# Altium footprint library Linear Technology Power Management Switching Regulator LT1074-LT8705.PcbLib: 146 footprints (part 8 of 10)
Each footprint in its own frame and in the unit in brackets; x right, y up, seen from the top. Pads: shape width x height; smd on the part's side, far side on the other; paste and mask are expansions set on the pad; w line width, h text height; cw(c..) or ccw(c..) is an arc to the next point about the centre after c.
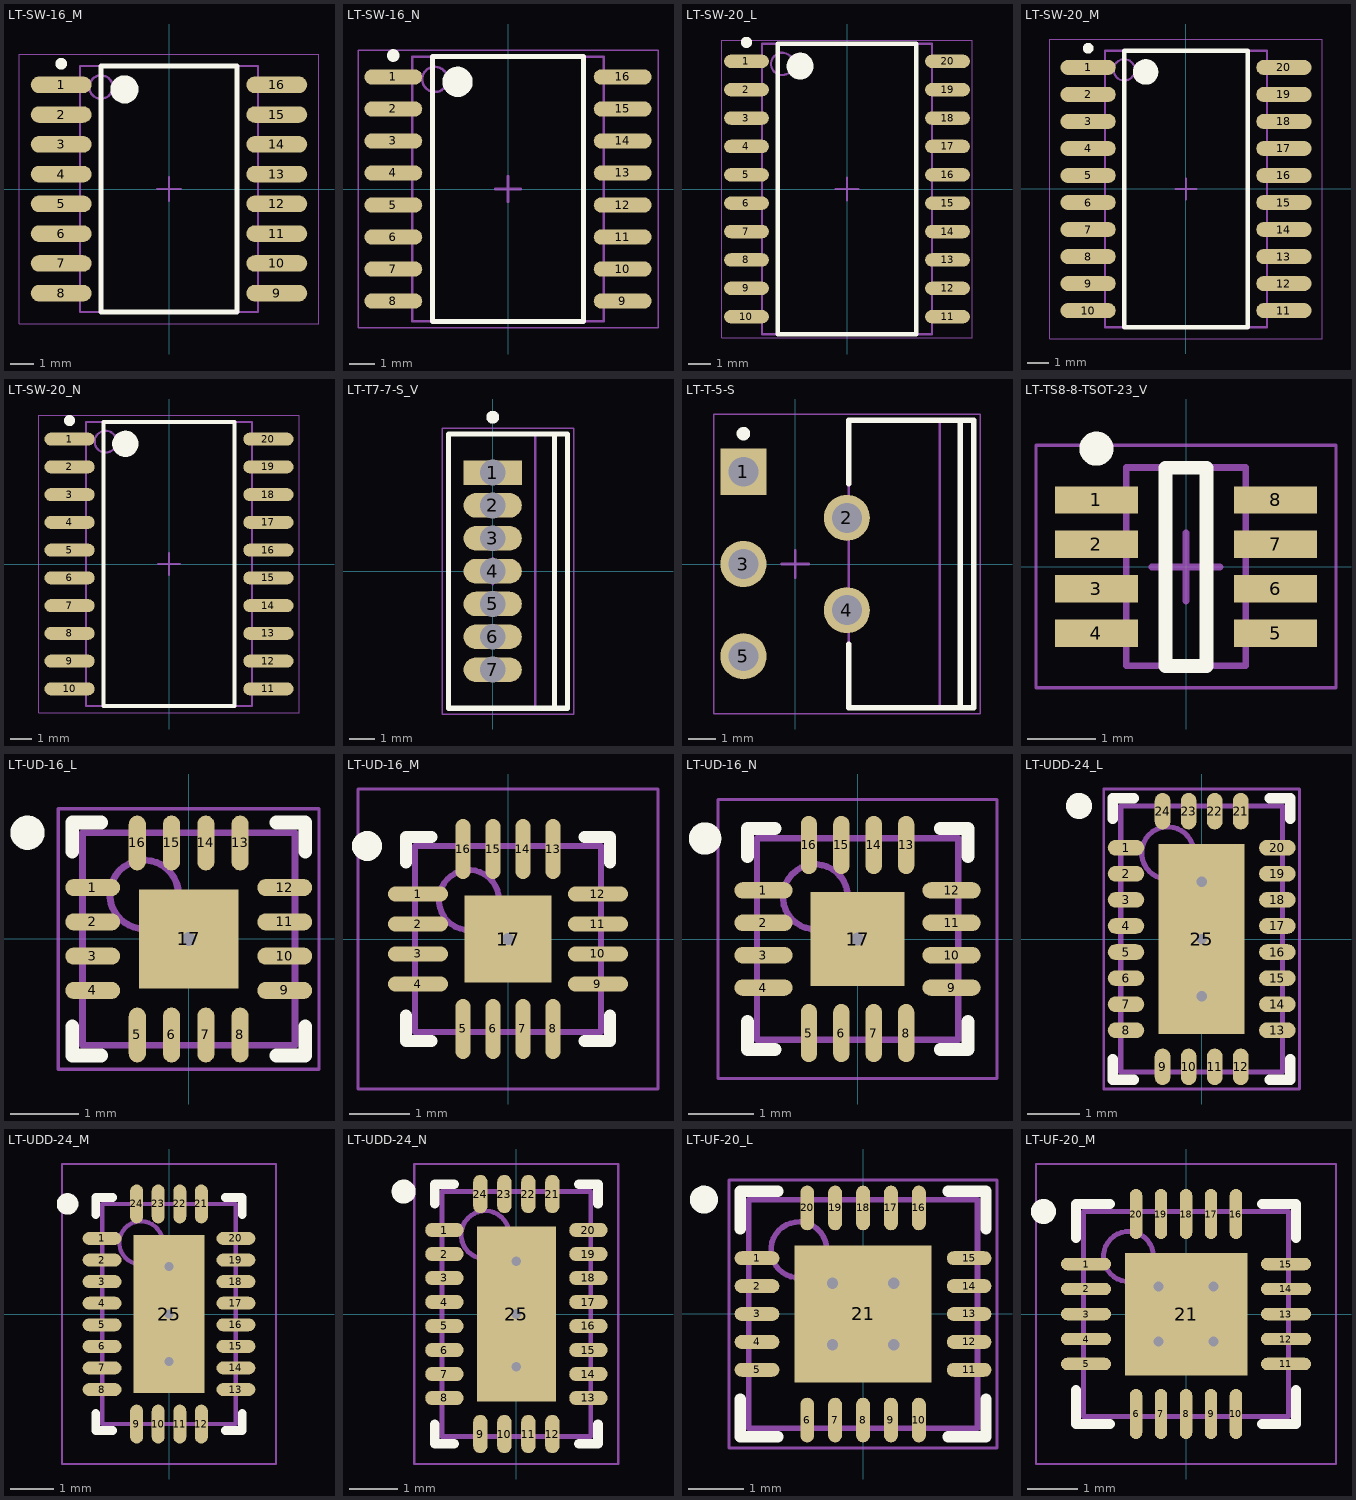
[diagram p7: the footprints below, top view; thin cyan lines are the x and y axes]

## LT-SW-16_M [mm] "SOIC, 16-Leads, Body 10.3x7.49mm, Pitch 1.27mm, IPC Low Density"
height 2.65
pads (16):
  oval 2.6x0.7 smd: 1(-4.6,4.445) 2(-4.6,3.175) 3(-4.6,1.905) 4(-4.6,0.635) 5(-4.6,-0.635) 6(-4.6,-1.905) 7(-4.6,-3.175) 8(-4.6,-4.445) 9(4.6,-4.445) 10(4.6,-3.175) 11(4.6,-1.905) 12(4.6,-0.635) 13(4.6,0.635) 14(4.6,1.905) 15(4.6,3.175) 16(4.6,4.445)
Top Overlay:
  circle w0.6: c-1.9,4.25 r0.3
  circle w0.25: c-4.6,5.345 r0.125
  lines w0.2: -2.9,-5.25 2.9,-5.25 2.9,5.25 -2.9,5.25 -2.9,-5.25
Mechanical 13:
  circle w0.1: c-2.9,4.35 r0.5
  lines w0.1: -3.8,-5.25 3.8,-5.25 3.8,5.25 -3.8,5.25 -3.8,-5.25
Mechanical 15:
  lines w0.05: -6.4,-5.75 6.4,-5.75 6.4,5.75 -6.4,5.75 -6.4,-5.75
  lines w0.1: -0.5,0 0.5,0 ; 0,-0.5 0,0.5
3D body: height 2.65, standoff 0.1, extent -3.8,-5.25 3.8,5.25

## LT-SW-16_N [mm] "SOIC, 16-Leads, Body 10.3x7.49mm, Pitch 1.27mm, IPC Medium Density"
height 2.65
pads (16):
  oval 2.3x0.6 smd: 1(-4.55,4.445) 2(-4.55,3.175) 3(-4.55,1.905) 4(-4.55,0.635) 5(-4.55,-0.635) 6(-4.55,-1.905) 7(-4.55,-3.175) 8(-4.55,-4.445) 9(4.55,-4.445) 10(4.55,-3.175) 11(4.55,-1.905) 12(4.55,-0.635) 13(4.55,0.635) 14(4.55,1.905) 15(4.55,3.175) 16(4.55,4.445)
Top Overlay:
  circle w0.6: c-2,4.25 r0.3
  circle w0.25: c-4.55,5.295 r0.125
  lines w0.2: -3,-5.25 3,-5.25 3,5.25 -3,5.25 -3,-5.25
Mechanical 13:
  circle w0.1: c-2.9,4.35 r0.5
  lines w0.1: -3.8,-5.25 3.8,-5.25 3.8,5.25 -3.8,5.25 -3.8,-5.25
Mechanical 15:
  lines w0.05: -5.95,-5.5 5.95,-5.5 5.95,5.5 -5.95,5.5 -5.95,-5.5
  lines w0.1: -0.5,0 0.5,0 ; 0,-0.5 0,0.5
3D body: height 2.65, standoff 0.1, extent -3.8,-5.25 3.8,5.25

## LT-SW-20_L [mm] "SOIC, 20-Leads, Body 12.8x7.49mm, Pitch 1.27mm, IPC High Density"
height 2.65
pads (20):
  oval 2x0.6 smd: 1(-4.5,5.715) 2(-4.5,4.445) 3(-4.5,3.175) 4(-4.5,1.905) 5(-4.5,0.635) 6(-4.5,-0.635) 7(-4.5,-1.905) 8(-4.5,-3.175) 9(-4.5,-4.445) 10(-4.5,-5.715) 11(4.5,-5.715) 12(4.5,-4.445) 13(4.5,-3.175) 14(4.5,-1.905) 15(4.5,-0.635) 16(4.5,0.635) 17(4.5,1.905) 18(4.5,3.175) 19(4.5,4.445) 20(4.5,5.715)
Top Overlay:
  circle w0.6: c-2.1,5.5 r0.3
  circle w0.25: c-4.5,6.565 r0.125
  lines w0.2: -3.1,-6.5 3.1,-6.5 3.1,6.5 -3.1,6.5 -3.1,-6.5
Mechanical 13:
  circle w0.1: c-2.9,5.6 r0.5
  lines w0.1: -3.8,-6.5 3.8,-6.5 3.8,6.5 -3.8,6.5 -3.8,-6.5
Mechanical 15:
  lines w0.05: -5.6,-6.65 5.6,-6.65 5.6,6.65 -5.6,6.65 -5.6,-6.65
  lines w0.1: -0.5,0 0.5,0 ; 0,-0.5 0,0.5
3D body: height 2.65, standoff 0.1, extent -3.8,-6.5 3.8,6.5

## LT-SW-20_M [mm] "SOIC, 20-Leads, Body 12.8x7.49mm, Pitch 1.27mm, IPC Low Density"
height 2.65
pads (20):
  oval 2.6x0.7 smd: 1(-4.6,5.715) 2(-4.6,4.445) 3(-4.6,3.175) 4(-4.6,1.905) 5(-4.6,0.635) 6(-4.6,-0.635) 7(-4.6,-1.905) 8(-4.6,-3.175) 9(-4.6,-4.445) 10(-4.6,-5.715) 11(4.6,-5.715) 12(4.6,-4.445) 13(4.6,-3.175) 14(4.6,-1.905) 15(4.6,-0.635) 16(4.6,0.635) 17(4.6,1.905) 18(4.6,3.175) 19(4.6,4.445) 20(4.6,5.715)
Top Overlay:
  circle w0.6: c-1.9,5.5 r0.3
  circle w0.25: c-4.6,6.615 r0.125
  lines w0.2: -2.9,-6.5 2.9,-6.5 2.9,6.5 -2.9,6.5 -2.9,-6.5
Mechanical 13:
  circle w0.1: c-2.9,5.6 r0.5
  lines w0.1: -3.8,-6.5 3.8,-6.5 3.8,6.5 -3.8,6.5 -3.8,-6.5
Mechanical 15:
  lines w0.05: -6.4,-7.05 6.4,-7.05 6.4,7.05 -6.4,7.05 -6.4,-7.05
  lines w0.1: -0.5,0 0.5,0 ; 0,-0.5 0,0.5
3D body: height 2.65, standoff 0.1, extent -3.8,-6.5 3.8,6.5

## LT-SW-20_N [mm] "SOIC, 20-Leads, Body 12.8x7.49mm, Pitch 1.27mm, IPC Medium Density"
height 2.65
pads (20):
  oval 2.3x0.6 smd: 1(-4.55,5.715) 2(-4.55,4.445) 3(-4.55,3.175) 4(-4.55,1.905) 5(-4.55,0.635) 6(-4.55,-0.635) 7(-4.55,-1.905) 8(-4.55,-3.175) 9(-4.55,-4.445) 10(-4.55,-5.715) 11(4.55,-5.715) 12(4.55,-4.445) 13(4.55,-3.175) 14(4.55,-1.905) 15(4.55,-0.635) 16(4.55,0.635) 17(4.55,1.905) 18(4.55,3.175) 19(4.55,4.445) 20(4.55,5.715)
Top Overlay:
  circle w0.6: c-2,5.5 r0.3
  circle w0.25: c-4.55,6.565 r0.125
  lines w0.2: -3,-6.5 3,-6.5 3,6.5 -3,6.5 -3,-6.5
Mechanical 13:
  circle w0.1: c-2.9,5.6 r0.5
  lines w0.1: -3.8,-6.5 3.8,-6.5 3.8,6.5 -3.8,6.5 -3.8,-6.5
Mechanical 15:
  lines w0.05: -5.95,-6.8 5.95,-6.8 5.95,6.8 -5.95,6.8 -5.95,-6.8
  lines w0.1: -0.5,0 0.5,0 ; 0,-0.5 0,0.5
3D body: height 2.65, standoff 0.1, extent -3.8,-6.5 3.8,6.5

## LT-T7-7-S_V [mm] "FM, 7-Leads, Body 10.55x4.6mm, Pitch 1.27mm"
height 15.75
pads (7):
  rect 2.25x0.95 hole 1: 1(0,3.81)
  oval 2.25x0.95 hole 1: 2(0,2.54) 3(0,1.27) 4(0,0) 5(0,-1.27) 6(0,-2.54) 7(0,-3.81)
Top Overlay:
  circle w0.25: c0,5.95 r0.125
  lines w0.2: 2.39,-5.3 2.39,5.3 ; -1.71,-5.3 -1.71,5.3 2.89,5.3 2.89,-5.3 -1.71,-5.3
Mechanical 13:
  lines w0.1: 1.64,-5.275 1.64,5.275 ; -1.71,-5.275 2.89,-5.275 2.89,5.275 -1.71,5.275 -1.71,-5.275
Mechanical 15:
  lines w0.05: -1.96,-5.525 3.14,-5.525 3.14,5.525 -1.96,5.525 -1.96,-5.525
  lines w0.1: -0.5,0 0.5,0 ; 0,-0.5 0,0.5
3D body: height 15.75, standoff 14.78, extent 1.64,-5.275 2.89,5.275
3D body: height 13.23, standoff 12.85, extent 1.64,-5.275 2.89,-1.925
3D body: height 13.23, standoff 12.85, extent 1.64,1.925 2.89,5.275
3D body: height 12.85, standoff 12.47, extent 1.64,-5.275 2.89,-1.925
3D body: height 12.85, standoff 12.47, extent 1.64,1.925 2.89,5.275
3D body: height 13.59, standoff 13.23, extent 1.64,-5.275 2.89,-1.888
3D body: height 13.59, standoff 13.23, extent 1.64,1.888 2.89,5.275
3D body: height 12.48, standoff 12.11, extent 1.64,-5.275 2.89,-1.888
3D body: height 12.48, standoff 12.11, extent 1.64,1.888 2.89,5.275
3D body: height 13.92, standoff 13.59, extent 1.64,-5.275 2.89,-1.778
3D body: height 13.92, standoff 13.59, extent 1.64,1.778 2.89,5.275
3D body: height 12.12, standoff 11.78, extent 1.64,-5.275 2.89,-1.778
3D body: height 12.12, standoff 11.78, extent 1.64,1.778 2.89,5.275
3D body: height 14.22, standoff 13.92, extent 1.64,-5.275 2.89,-1.601
3D body: height 14.22, standoff 13.92, extent 1.64,1.601 2.89,5.275
3D body: height 11.79, standoff 11.49, extent 1.64,-5.275 2.89,-1.601
3D body: height 11.79, standoff 11.49, extent 1.64,1.601 2.89,5.275
3D body: height 14.46, standoff 14.21, extent 1.64,-5.275 2.89,-1.361
3D body: height 14.46, standoff 14.21, extent 1.64,1.361 2.89,5.275
3D body: height 11.49, standoff 11.25, extent 1.64,-5.275 2.89,-1.361
3D body: height 11.49, standoff 11.25, extent 1.64,1.361 2.89,5.275
3D body: height 14.63, standoff 14.45, extent 1.64,-5.275 2.89,-1.069
3D body: height 14.63, standoff 14.45, extent 1.64,1.069 2.89,5.275
3D body: height 11.25, standoff 11.07, extent 1.64,-5.275 2.89,-1.069
3D body: height 11.25, standoff 11.07, extent 1.64,1.069 2.89,5.275
3D body: height 14.74, standoff 14.63, extent 1.64,-5.275 2.89,-0.737
3D body: height 14.74, standoff 14.63, extent 1.64,0.737 2.89,5.275
3D body: height 11.08, standoff 10.96, extent 1.64,-5.275 2.89,-0.737
3D body: height 11.08, standoff 10.96, extent 1.64,0.737 2.89,5.275
3D body: height 14.78, standoff 14.74, extent 1.64,-5.275 2.89,-0.376
3D body: height 14.78, standoff 14.74, extent 1.64,0.376 2.89,5.275
3D body: height 10.97, standoff 10.93, extent 1.64,-5.275 2.89,-0.376
3D body: height 10.97, standoff 10.93, extent 1.64,0.376 2.89,5.275
3D body: height 10.93, standoff 9.4, extent 1.64,-5.275 2.89,5.275
3D body: height 9.4, standoff 0, extent -1.71,-5.275 2.89,5.275
3D body: height 0, standoff -1.6, extent -0.23,-4.205 0.23,-3.415
3D body: height 0, standoff -1.6, extent -0.23,-2.935 0.23,-2.145
3D body: height 0, standoff -1.6, extent -0.23,-1.665 0.23,-0.875
3D body: height 0, standoff -1.6, extent -0.23,-0.395 0.23,0.395
3D body: height 0, standoff -1.6, extent -0.23,0.875 0.23,1.665
3D body: height 0, standoff -1.6, extent -0.23,2.145 0.23,2.935
3D body: height 0, standoff -1.6, extent -0.23,3.415 0.23,4.205

## LT-T-5-S [mm] "FM, 5-Leads, Body 10.55x4.6mm, Pitch 1.7mm"
height 22.23
pads (5):
  rect 1.7x1.7 hole 1.1: 1(-1.905,3.4)
  round 1.7 hole 1.1: 2(1.905,1.7) 3(-1.905,0) 4(1.905,-1.7) 5(-1.905,-3.4)
Top Overlay:
  circle w0.25: c-1.905,4.8 r0.125
  lines w0.2: 1.975,-2.95 1.975,-5.3 6.575,-5.3 6.575,5.3 1.975,5.3 1.975,2.95 ; 6.075,-5.3 6.075,5.3
Mechanical 13:
  lines w0.1: 5.325,-5.275 5.325,5.275 ; 1.975,-5.275 1.975,5.275 6.575,5.275 6.575,-5.275 1.975,-5.275
Mechanical 15:
  lines w0.05: -3.005,-5.525 -3.005,5.525 6.825,5.525 6.825,-5.525 -3.005,-5.525
  lines w0.1: -0.5,0 0.5,0 ; 0,-0.5 0,0.5
3D body: height 1.84, standoff 0, extent -2.135,2.8 -1.675,4
3D body: height 2.3, standoff 1.84, extent -2.135,2.8 4.505,4
3D body: height 4.14, standoff 2.3, extent 4.045,2.8 4.505,4
3D body: height 0, standoff -1.6, extent -2.135,2.98 -1.675,3.82
3D body: height 1.84, standoff 0, extent 1.675,1.1 2.135,2.3
3D body: height 2.3, standoff 1.84, extent 1.675,1.1 4.505,2.3
3D body: height 4.14, standoff 2.3, extent 4.045,1.1 4.505,2.3
3D body: height 0, standoff -1.6, extent 1.675,1.28 2.135,2.12
3D body: height 1.84, standoff 0, extent -2.135,-0.6 -1.675,0.6
3D body: height 2.3, standoff 1.84, extent -2.135,-0.6 4.505,0.6
3D body: height 4.14, standoff 2.3, extent 4.045,-0.6 4.505,0.6
3D body: height 0, standoff -1.6, extent -2.135,-0.42 -1.675,0.42
3D body: height 1.84, standoff 0, extent 1.675,-2.3 2.135,-1.1
3D body: height 2.3, standoff 1.84, extent 1.675,-2.3 4.505,-1.1
3D body: height 4.14, standoff 2.3, extent 4.045,-2.3 4.505,-1.1
3D body: height 0, standoff -1.6, extent 1.675,-2.12 2.135,-1.28
3D body: height 1.84, standoff 0, extent -2.135,-4 -1.675,-2.8
3D body: height 2.3, standoff 1.84, extent -2.135,-4 4.505,-2.8
3D body: height 4.14, standoff 2.3, extent 4.045,-4 4.505,-2.8
3D body: height 0, standoff -1.6, extent -2.135,-3.82 -1.675,-2.98
3D body: height 15.88, standoff 4.14, extent 1.975,-5.275 6.575,5.275
3D body: height 17.41, standoff 15.88, extent 5.325,-5.275 6.575,5.275
3D body: height 17.45, standoff 17.41, extent 5.325,0.376 6.575,5.275
3D body: height 17.45, standoff 17.41, extent 5.325,-5.275 6.575,-0.376
3D body: height 21.26, standoff 21.22, extent 5.325,0.376 6.575,5.275
3D body: height 21.26, standoff 21.22, extent 5.325,-5.275 6.575,-0.376
3D body: height 17.56, standoff 17.44, extent 5.325,0.737 6.575,5.275
3D body: height 17.56, standoff 17.44, extent 5.325,-5.275 6.575,-0.737
3D body: height 21.22, standoff 21.11, extent 5.325,0.737 6.575,5.275
3D body: height 21.22, standoff 21.11, extent 5.325,-5.275 6.575,-0.737
3D body: height 17.73, standoff 17.55, extent 5.325,1.069 6.575,5.275
3D body: height 17.73, standoff 17.55, extent 5.325,-5.275 6.575,-1.069
3D body: height 21.11, standoff 20.93, extent 5.325,1.069 6.575,5.275
3D body: height 21.11, standoff 20.93, extent 5.325,-5.275 6.575,-1.069
3D body: height 17.97, standoff 17.73, extent 5.325,1.361 6.575,5.275
3D body: height 17.97, standoff 17.73, extent 5.325,-5.275 6.575,-1.361
3D body: height 20.94, standoff 20.69, extent 5.325,1.361 6.575,5.275
3D body: height 20.94, standoff 20.69, extent 5.325,-5.275 6.575,-1.361
3D body: height 18.27, standoff 17.97, extent 5.325,1.601 6.575,5.275
3D body: height 18.27, standoff 17.97, extent 5.325,-5.275 6.575,-1.601
3D body: height 20.7, standoff 20.4, extent 5.325,1.601 6.575,5.275
3D body: height 20.7, standoff 20.4, extent 5.325,-5.275 6.575,-1.601
3D body: height 18.6, standoff 18.26, extent 5.325,1.778 6.575,5.275
3D body: height 18.6, standoff 18.26, extent 5.325,-5.275 6.575,-1.778
3D body: height 20.4, standoff 20.07, extent 5.325,1.778 6.575,5.275
3D body: height 20.4, standoff 20.07, extent 5.325,-5.275 6.575,-1.778
3D body: height 18.96, standoff 18.59, extent 5.325,1.888 6.575,5.275
3D body: height 18.96, standoff 18.59, extent 5.325,-5.275 6.575,-1.888
3D body: height 20.07, standoff 19.71, extent 5.325,1.888 6.575,5.275
3D body: height 20.07, standoff 19.71, extent 5.325,-5.275 6.575,-1.888
3D body: height 19.33, standoff 18.95, extent 5.325,1.925 6.575,5.275
3D body: height 19.33, standoff 18.95, extent 5.325,-5.275 6.575,-1.925
3D body: height 19.71, standoff 19.33, extent 5.325,1.925 6.575,5.275
3D body: height 19.71, standoff 19.33, extent 5.325,-5.275 6.575,-1.925
3D body: height 22.23, standoff 21.26, extent 5.325,-5.275 6.575,5.275

## LT-TS8-8-TSOT-23_V [mm] "SOT23, 8-Leads, Body 2.9x1.75mm, Pitch 0.65mm"
height 1
pads (8):
  rect 1.22x0.4 smd: 1(-1.31,0.975) 2(-1.31,0.325) 3(-1.31,-0.325) 4(-1.31,-0.975) 5(1.31,-0.975) 6(1.31,-0.325) 7(1.31,0.325) 8(1.31,0.975)
Top Overlay:
  circle w0.25: c-1.31,1.726 r0.125
  lines w0.2: -0.3,-1.454 0.3,-1.454 0.3,1.446 -0.3,1.446 -0.3,-1.454
Mechanical 13:
  lines w0.1: -0.875,-1.45 -0.875,1.45 0.875,1.45 0.875,-1.45 -0.875,-1.45
Mechanical 15:
  lines w0.05: -2.195,-1.775 -2.195,-1.55 -2.195,1.55 -2.195,1.775 -1.75,1.775 1.75,1.775 2.195,1.775 2.195,1.55 2.195,-1.55 2.195,-1.775 1.75,-1.775 -1.75,-1.775 -2.195,-1.775
  lines w0.1: -0.501,-0.004 0.499,-0.004 ; -0.001,-0.504 -0.001,0.496
3D body: height 1, standoff 0.01, extent -0.875,-1.45 0.875,1.45

## LT-UD-16_L [mm] "QFN, 16-Leads, Body 3x3mm, Pitch 0.5mm, Thermal Pad 1.45x1.45mm, IPC High Density"
height 0.8
pads (17):
  oval 0.8x0.25 smd: 1(-1.4,0.75) 2(-1.4,0.25) 3(-1.4,-0.25) 4(-1.4,-0.75) 9(1.4,-0.75) 10(1.4,-0.25) 11(1.4,0.25) 12(1.4,0.75)
  oval 0.25x0.8 smd: 5(-0.75,-1.4) 6(-0.25,-1.4) 7(0.25,-1.4) 8(0.75,-1.4) 13(0.75,1.4) 14(0.25,1.4) 15(-0.25,1.4) 16(-0.75,1.4)
  rect 1.45x1.45 smd: 17(0,0)
via 0,0 diameter 0.5 hole 0.2
Top Overlay:
  circle w0.25: c-2.35,1.55 r0.125
  lines w0.2: -1.7,-1.275 -1.7,-1.7 -1.275,-1.7 ; -1.7,1.275 -1.7,1.7 -1.275,1.7 ; 1.275,-1.7 1.7,-1.7 1.7,-1.275 ; 1.275,1.7 1.7,1.7 1.7,1.275
Mechanical 13:
  circle w0.1: c-0.65,0.65 r0.5
  lines w0.1: -1.55,-1.55 1.55,-1.55 1.55,1.55 -1.55,1.55 -1.55,-1.55
Mechanical 15:
  lines w0.05: -1.9,-1.9 1.9,-1.9 1.9,1.9 -1.9,1.9 -1.9,-1.9
  lines w0.1: -0.5,0 0.5,0 ; 0,-0.5 0,0.5
3D body: height 0.8, standoff 0, extent -1.55,-1.55 1.55,1.55

## LT-UD-16_M [mm] "QFN, 16-Leads, Body 3x3mm, Pitch 0.5mm, Thermal Pad 1.45x1.45mm, IPC Low Density"
height 0.8
pads (17):
  oval 1x0.25 smd: 1(-1.5,0.75) 2(-1.5,0.25) 3(-1.5,-0.25) 4(-1.5,-0.75) 9(1.5,-0.75) 10(1.5,-0.25) 11(1.5,0.25) 12(1.5,0.75)
  oval 0.25x1 smd: 5(-0.75,-1.5) 6(-0.25,-1.5) 7(0.25,-1.5) 8(0.75,-1.5) 13(0.75,1.5) 14(0.25,1.5) 15(-0.25,1.5) 16(-0.75,1.5)
  rect 1.45x1.45 smd: 17(0,0)
via 0,0 diameter 0.5 hole 0.2
Top Overlay:
  circle w0.25: c-2.35,1.55 r0.125
  lines w0.2: -1.7,-1.275 -1.7,-1.7 -1.275,-1.7 ; -1.7,1.275 -1.7,1.7 -1.275,1.7 ; 1.275,-1.7 1.7,-1.7 1.7,-1.275 ; 1.275,1.7 1.7,1.7 1.7,1.275
Mechanical 13:
  circle w0.1: c-0.65,0.65 r0.5
  lines w0.1: -1.55,-1.55 1.55,-1.55 1.55,1.55 -1.55,1.55 -1.55,-1.55
Mechanical 15:
  lines w0.05: -2.5,-2.5 2.5,-2.5 2.5,2.5 -2.5,2.5 -2.5,-2.5
  lines w0.1: -0.5,0 0.5,0 ; 0,-0.5 0,0.5
3D body: height 0.8, standoff 0, extent -1.55,-1.55 1.55,1.55

## LT-UD-16_N [mm] "QFN, 16-Leads, Body 3x3mm, Pitch 0.5mm, Thermal Pad 1.45x1.45mm, IPC Medium Density"
height 0.8
pads (17):
  oval 0.9x0.25 smd: 1(-1.45,0.75) 2(-1.45,0.25) 3(-1.45,-0.25) 4(-1.45,-0.75) 9(1.45,-0.75) 10(1.45,-0.25) 11(1.45,0.25) 12(1.45,0.75)
  oval 0.25x0.9 smd: 5(-0.75,-1.45) 6(-0.25,-1.45) 7(0.25,-1.45) 8(0.75,-1.45) 13(0.75,1.45) 14(0.25,1.45) 15(-0.25,1.45) 16(-0.75,1.45)
  rect 1.45x1.45 smd: 17(0,0)
via 0,0 diameter 0.5 hole 0.2
Top Overlay:
  circle w0.25: c-2.35,1.55 r0.125
  lines w0.2: -1.7,-1.275 -1.7,-1.7 -1.275,-1.7 ; -1.7,1.275 -1.7,1.7 -1.275,1.7 ; 1.275,-1.7 1.7,-1.7 1.7,-1.275 ; 1.275,1.7 1.7,1.7 1.7,1.275
Mechanical 13:
  circle w0.1: c-0.65,0.65 r0.5
  lines w0.1: -1.55,-1.55 1.55,-1.55 1.55,1.55 -1.55,1.55 -1.55,-1.55
Mechanical 15:
  lines w0.05: -2.15,-2.15 2.15,-2.15 2.15,2.15 -2.15,2.15 -2.15,-2.15
  lines w0.1: -0.5,0 0.5,0 ; 0,-0.5 0,0.5
3D body: height 0.8, standoff 0, extent -1.55,-1.55 1.55,1.55

## LT-UDD-24_L [mm] "QFN, 24-Leads, Body 5.1x3.1mm, Pitch 0.5mm, Thermal Pad 3.65x1.65mm, IPC High Density"
height 0.8
pads (25):
  oval 0.7x0.3 smd: 1(-1.45,1.75) 2(-1.45,1.25) 3(-1.45,0.75) 4(-1.45,0.25) 5(-1.45,-0.25) 6(-1.45,-0.75) 7(-1.45,-1.25) 8(-1.45,-1.75) 13(1.45,-1.75) 14(1.45,-1.25) 15(1.45,-0.75) 16(1.45,-0.25) 17(1.45,0.25) 18(1.45,0.75) 19(1.45,1.25) 20(1.45,1.75)
  oval 0.3x0.7 smd: 9(-0.75,-2.45) 10(-0.25,-2.45) 11(0.25,-2.45) 12(0.75,-2.45) 21(0.75,2.45) 22(0.25,2.45) 23(-0.25,2.45) 24(-0.75,2.45)
  rect 1.65x3.65 smd: 25(0,0)
via 0,1.1 diameter 0.5 hole 0.2
via 0,0 diameter 0.5 hole 0.2
via 0,-1.1 diameter 0.5 hole 0.2
Top Overlay:
  circle w0.25: c-2.35,2.55 r0.125
  lines w0.2: -1.7,-2.3 -1.7,-2.7 -1.3,-2.7 ; -1.7,2.3 -1.7,2.7 -1.3,2.7 ; 1.3,-2.7 1.7,-2.7 1.7,-2.3 ; 1.3,2.7 1.7,2.7 1.7,2.3
Mechanical 13:
  circle w0.1: c-0.65,1.65 r0.5
  lines w0.1: -1.55,-2.55 -1.55,2.55 1.55,2.55 1.55,-2.55 -1.55,-2.55
Mechanical 15:
  lines w0.05: -1.875,-2.875 -1.875,2.875 1.875,2.875 1.875,-2.875 -1.875,-2.875
  lines w0.1: -0.5,0 0.5,0 ; 0,-0.5 0,0.5
3D body: height 0.8, standoff 0, extent -1.55,-2.55 1.55,2.55

## LT-UDD-24_M [mm] "QFN, 24-Leads, Body 5.1x3.1mm, Pitch 0.5mm, Thermal Pad 3.65x1.65mm, IPC Low Density"
height 0.8
pads (25):
  oval 0.9x0.3 smd: 1(-1.55,1.75) 2(-1.55,1.25) 3(-1.55,0.75) 4(-1.55,0.25) 5(-1.55,-0.25) 6(-1.55,-0.75) 7(-1.55,-1.25) 8(-1.55,-1.75) 13(1.55,-1.75) 14(1.55,-1.25) 15(1.55,-0.75) 16(1.55,-0.25) 17(1.55,0.25) 18(1.55,0.75) 19(1.55,1.25) 20(1.55,1.75)
  oval 0.3x0.9 smd: 9(-0.75,-2.55) 10(-0.25,-2.55) 11(0.25,-2.55) 12(0.75,-2.55) 21(0.75,2.55) 22(0.25,2.55) 23(-0.25,2.55) 24(-0.75,2.55)
  rect 1.65x3.65 smd: 25(0,0)
via 0,1.1 diameter 0.5 hole 0.2
via 0,0 diameter 0.5 hole 0.2
via 0,-1.1 diameter 0.5 hole 0.2
Top Overlay:
  circle w0.25: c-2.35,2.55 r0.125
  lines w0.2: -1.7,-2.3 -1.7,-2.7 -1.3,-2.7 ; -1.7,2.3 -1.7,2.7 -1.3,2.7 ; 1.3,-2.7 1.7,-2.7 1.7,-2.3 ; 1.3,2.7 1.7,2.7 1.7,2.3
Mechanical 13:
  circle w0.1: c-0.65,1.65 r0.5
  lines w0.1: -1.55,-2.55 -1.55,2.55 1.55,2.55 1.55,-2.55 -1.55,-2.55
Mechanical 15:
  lines w0.05: -2.475,-3.475 -2.475,3.475 2.475,3.475 2.475,-3.475 -2.475,-3.475
  lines w0.1: -0.5,0 0.5,0 ; 0,-0.5 0,0.5
3D body: height 0.8, standoff 0, extent -1.55,-2.55 1.55,2.55

## LT-UDD-24_N [mm] "QFN, 24-Leads, Body 5.1x3.1mm, Pitch 0.5mm, Thermal Pad 3.65x1.65mm, IPC Medium Density"
height 0.8
pads (25):
  oval 0.8x0.3 smd: 1(-1.5,1.75) 2(-1.5,1.25) 3(-1.5,0.75) 4(-1.5,0.25) 5(-1.5,-0.25) 6(-1.5,-0.75) 7(-1.5,-1.25) 8(-1.5,-1.75) 13(1.5,-1.75) 14(1.5,-1.25) 15(1.5,-0.75) 16(1.5,-0.25) 17(1.5,0.25) 18(1.5,0.75) 19(1.5,1.25) 20(1.5,1.75)
  oval 0.3x0.8 smd: 9(-0.75,-2.5) 10(-0.25,-2.5) 11(0.25,-2.5) 12(0.75,-2.5) 21(0.75,2.5) 22(0.25,2.5) 23(-0.25,2.5) 24(-0.75,2.5)
  rect 1.65x3.65 smd: 25(0,0)
via 0,1.1 diameter 0.5 hole 0.2
via 0,0 diameter 0.5 hole 0.2
via 0,-1.1 diameter 0.5 hole 0.2
Top Overlay:
  circle w0.25: c-2.35,2.55 r0.125
  lines w0.2: -1.7,-2.3 -1.7,-2.7 -1.3,-2.7 ; -1.7,2.3 -1.7,2.7 -1.3,2.7 ; 1.3,-2.7 1.7,-2.7 1.7,-2.3 ; 1.3,2.7 1.7,2.7 1.7,2.3
Mechanical 13:
  circle w0.1: c-0.65,1.65 r0.5
  lines w0.1: -1.55,-2.55 -1.55,2.55 1.55,2.55 1.55,-2.55 -1.55,-2.55
Mechanical 15:
  lines w0.05: -2.125,-3.125 -2.125,3.125 2.125,3.125 2.125,-3.125 -2.125,-3.125
  lines w0.1: -0.5,0 0.5,0 ; 0,-0.5 0,0.5
3D body: height 0.8, standoff 0, extent -1.55,-2.55 1.55,2.55

## LT-UF-20_L [mm] "QFN, 20-Leads, Body 4.1x4.1mm, Pitch 0.5mm, Thermal Pad 2.45x2.45mm, IPC High Density"
height 0.8
pads (21):
  oval 0.8x0.25 smd: 1(-1.9,1) 2(-1.9,0.5) 3(-1.9,0) 4(-1.9,-0.5) 5(-1.9,-1) 11(1.9,-1) 12(1.9,-0.5) 13(1.9,0) 14(1.9,0.5) 15(1.9,1)
  oval 0.25x0.8 smd: 6(-1,-1.9) 7(-0.5,-1.9) 8(0,-1.9) 9(0.5,-1.9) 10(1,-1.9) 16(1,1.9) 17(0.5,1.9) 18(0,1.9) 19(-0.5,1.9) 20(-1,1.9)
  rect 2.45x2.45 smd: 21(0,0)
via -0.55,0.55 diameter 0.5 hole 0.2
via 0.55,0.55 diameter 0.5 hole 0.2
via -0.55,-0.55 diameter 0.5 hole 0.2
via 0.55,-0.55 diameter 0.5 hole 0.2
Top Overlay:
  circle w0.25: c-2.85,2.05 r0.125
  lines w0.2: -2.2,-1.524 -2.2,-2.2 -1.524,-2.2 ; -2.2,1.524 -2.2,2.2 -1.524,2.2 ; 1.524,-2.2 2.2,-2.2 2.2,-1.524 ; 1.524,2.2 2.2,2.2 2.2,1.524
Mechanical 13:
  circle w0.1: c-1.15,1.15 r0.5
  lines w0.1: -2.05,-2.05 -2.05,2.05 2.05,2.05 2.05,-2.05 -2.05,-2.05
Mechanical 15:
  lines w0.05: -2.4,-2.4 -2.4,2.4 2.4,2.4 2.4,-2.4 -2.4,-2.4
  lines w0.1: -0.5,0 0.5,0 ; 0,-0.5 0,0.5
3D body: height 0.8, standoff 0, extent -2.05,-2.05 2.05,2.05

## LT-UF-20_M [mm] "QFN, 20-Leads, Body 4.1x4.1mm, Pitch 0.5mm, Thermal Pad 2.45x2.45mm, IPC Low Density"
height 0.8
pads (21):
  oval 1x0.25 smd: 1(-2,1) 2(-2,0.5) 3(-2,0) 4(-2,-0.5) 5(-2,-1) 11(2,-1) 12(2,-0.5) 13(2,0) 14(2,0.5) 15(2,1)
  oval 0.25x1 smd: 6(-1,-2) 7(-0.5,-2) 8(0,-2) 9(0.5,-2) 10(1,-2) 16(1,2) 17(0.5,2) 18(0,2) 19(-0.5,2) 20(-1,2)
  rect 2.45x2.45 smd: 21(0,0)
via 0.55,-0.55 diameter 0.5 hole 0.2
via -0.55,-0.55 diameter 0.5 hole 0.2
via 0.55,0.55 diameter 0.5 hole 0.2
via -0.55,0.55 diameter 0.5 hole 0.2
Top Overlay:
  circle w0.25: c-2.85,2.05 r0.125
  lines w0.2: -2.2,-1.525 -2.2,-2.2 -1.525,-2.2 ; -2.2,1.525 -2.2,2.2 -1.525,2.2 ; 1.525,-2.2 2.2,-2.2 2.2,-1.525 ; 1.525,2.2 2.2,2.2 2.2,1.525
Mechanical 13:
  circle w0.1: c-1.15,1.15 r0.5
  lines w0.1: -2.05,-2.05 2.05,-2.05 2.05,2.05 -2.05,2.05 -2.05,-2.05
Mechanical 15:
  lines w0.05: -3,-3 3,-3 3,3 -3,3 -3,-3
  lines w0.1: -0.5,0 0.5,0 ; 0,-0.5 0,0.5
3D body: height 0.8, standoff 0, extent -2.05,-2.05 2.05,2.05